# Altium schematic symbol library 原件库.SchLib: 18 symbols
Pins are listed as number, name and electrical type; pins without a type are passive.

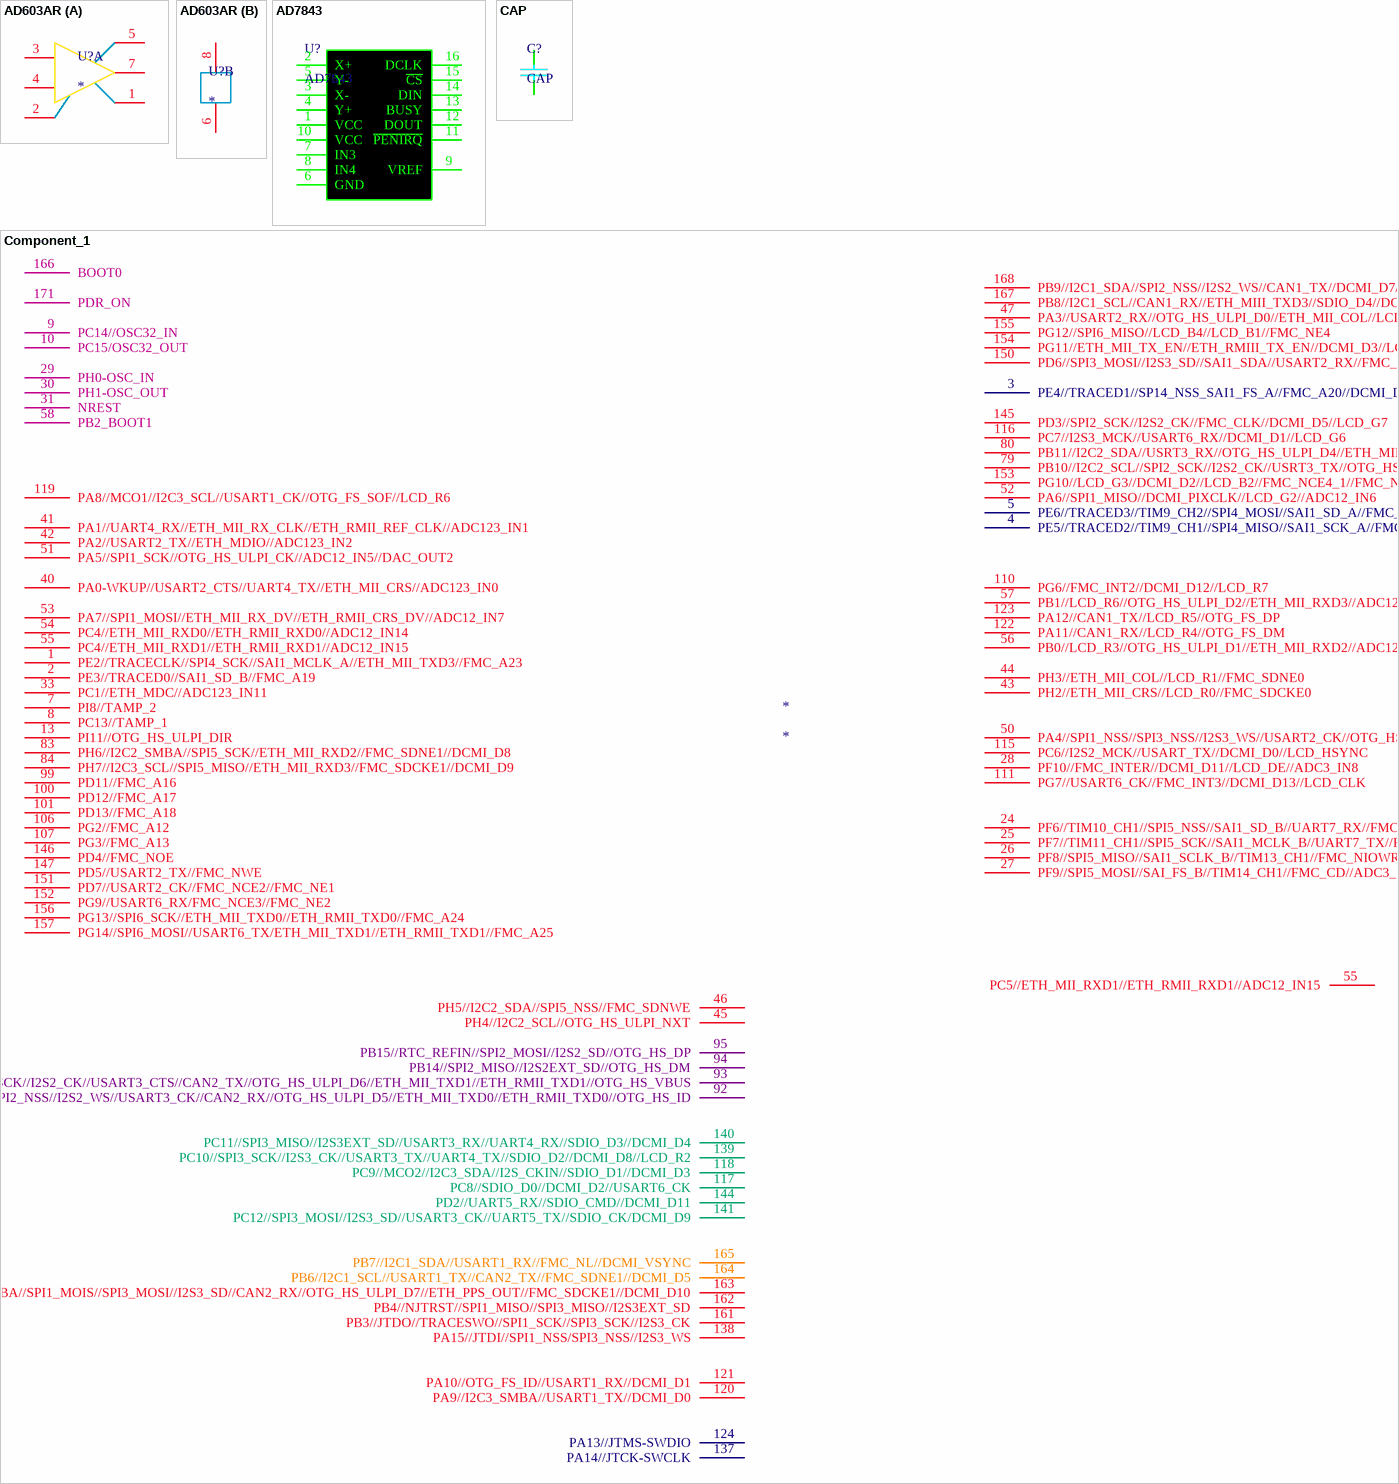
[diagram p0: symbols AD603AR to Component_1]

## AD603AR
designator U?
part A pins: 1, 2  , 3 IN, 4 GND, 5, 7 OUT
part B pins: 6 (power), 8 (power)

## AD7843
designator U?
footprint TSOP65P640X120-16M (TSOP, 16-Leads, Body 5.00x4.40mm, Pitch 0.65mm, IPC Low Density)
pins: 1 VCC, 2 X+, 3 X-, 4 Y+, 5 Y-, 6 GND, 7 IN3, 8 IN4, 9 VREF, 10 VCC, 11 ~{PENIRQ}, 12 DOUT, 13 BUSY, 14 DIN, 15 ~{CS}, 16 DCLK

## CAP
designator C?
footprint 0805C
pins: 1, 2

## Component_1
designator *
pins: 1 PE2//TRACECLK//SPI4_SCK//SAI1_MCLK_A//ETH_MII_TXD3//FMC_A23, 2 PE3//TRACED0//SAI1_SD_B//FMC_A19, 3 PE4//TRACED1//SP14_NSS_SAI1_FS_A//FMC_A20//DCMI_D4//LCD_B0, 4 PE5//TRACED2//TIM9_CH1//SPI4_MISO//SAI1_SCK_A//FMC_A21//DCMI_D6//LCD_G0, 5 PE6//TRACED3//TIM9_CH2//SPI4_MOSI//SAI1_SD_A//FMC_A22//DCMI_D7//LCD_G1, 7 PI8//TAMP_2, 8 PC13//TAMP_1, 9 PC14//OSC32_IN, 10 PC15/OSC32_OUT, 13 PI11//OTG_HS_ULPI_DIR, 24 PF6//TIM10_CH1//SPI5_NSS//SAI1_SD_B//UART7_RX//FMC_NIORD//ADC3_IN4, 25 PF7//TIM11_CH1//SPI5_SCK//SAI1_MCLK_B//UART7_TX//FMC_NREG//ADC3_IN5, 26 PF8//SPI5_MISO//SAI1_SCLK_B//TIM13_CH1//FMC_NIOWR//ADC3_IN6, 27 PF9//SPI5_MOSI//SAI_FS_B//TIM14_CH1//FMC_CD//ADC3_IN7, 28 PF10//FMC_INTER//DCMI_D11//LCD_DE//ADC3_IN8, 29 PH0-OSC_IN, 30 PH1-OSC_OUT, 31 NREST, 33 PC1//ETH_MDC//ADC123_IN11, 40 PA0-WKUP//USART2_CTS//UART4_TX//ETH_MII_CRS//ADC123_IN0, 41 PA1//UART4_RX//ETH_MII_RX_CLK//ETH_RMII_REF_CLK//ADC123_IN1, 42 PA2//USART2_TX//ETH_MDIO//ADC123_IN2, 43 PH2//ETH_MII_CRS//LCD_R0//FMC_SDCKE0, 44 PH3//ETH_MII_COL//LCD_R1//FMC_SDNE0, 45 PH4//I2C2_SCL//OTG_HS_ULPI_NXT, 46 PH5//I2C2_SDA//SPI5_NSS//FMC_SDNWE, 47 PA3//USART2_RX//OTG_HS_ULPI_D0//ETH_MII_COL//LCD_B5//ADC123_IN3, 50 PA4//SPI1_NSS//SPI3_NSS//I2S3_WS//USART2_CK//OTG_HS_SOF//DCMI_HSYNC//LCD_VSYNC//ADC12_IN4//DAC_OUT1, 51 PA5//SPI1_SCK//OTG_HS_ULPI_CK//ADC12_IN5//DAC_OUT2, 52 PA6//SPI1_MISO//DCMI_PIXCLK//LCD_G2//ADC12_IN6, 53 PA7//SPI1_MOSI//ETH_MII_RX_DV//ETH_RMII_CRS_DV//ADC12_IN7, 54 PC4//ETH_MII_RXD0//ETH_RMII_RXD0//ADC12_IN14, 55 PC5//ETH_MII_RXD1//ETH_RMII_RXD1//ADC12_IN15, 55 PC4//ETH_MII_RXD1//ETH_RMII_RXD1//ADC12_IN15, 56 PB0//LCD_R3//OTG_HS_ULPI_D1//ETH_MII_RXD2//ADC12_IN8, 57 PB1//LCD_R6//OTG_HS_ULPI_D2//ETH_MII_RXD3//ADC12_IN9, 58 PB2_BOOT1, 79 PB10//I2C2_SCL//SPI2_SCK//I2S2_CK//USRT3_TX//OTG_HS_ULPI_D3//ETH_MII_RX_ER//LCD_G4, 80 PB11//I2C2_SDA//USRT3_RX//OTG_HS_ULPI_D4//ETH_MII_TX_EN//ETH_RMII_TX_EN//LCD_G5, 83 PH6//I2C2_SMBA//SPI5_SCK//ETH_MII_RXD2//FMC_SDNE1//DCMI_D8, 84 PH7//I2C3_SCL//SPI5_MISO//ETH_MII_RXD3//FMC_SDCKE1//DCMI_D9, 92 PB12//I2C2_SMBA//SPI2_NSS//I2S2_WS//USART3_CK//CAN2_RX//OTG_HS_ULPI_D5//ETH_MII_TXD0//ETH_RMII_TXD0//OTG_HS_ID, 93 PB13//SPI2_SCK//I2S2_CK//USART3_CTS//CAN2_TX//OTG_HS_ULPI_D6//ETH_MII_TXD1//ETH_RMII_TXD1//OTG_HS_VBUS, 94 PB14//SPI2_MISO//I2S2EXT_SD//OTG_HS_DM, 95 PB15//RTC_REFIN//SPI2_MOSI//I2S2_SD//OTG_HS_DP, 99 PD11//FMC_A16, 100 PD12//FMC_A17, 101 PD13//FMC_A18, 106 PG2//FMC_A12, 107 PG3//FMC_A13, 110 PG6//FMC_INT2//DCMI_D12//LCD_R7, 111 PG7//USART6_CK//FMC_INT3//DCMI_D13//LCD_CLK, 115 PC6//I2S2_MCK//USART_TX//DCMI_D0//LCD_HSYNC, 116 PC7//I2S3_MCK//USART6_RX//DCMI_D1//LCD_G6, 117 PC8//SDIO_D0//DCMI_D2//USART6_CK, 118 PC9//MCO2//I2C3_SDA//I2S_CKIN//SDIO_D1//DCMI_D3, 119 PA8//MCO1//I2C3_SCL//USART1_CK//OTG_FS_SOF//LCD_R6, 120 PA9//I2C3_SMBA//USART1_TX//DCMI_D0, 121 PA10//OTG_FS_ID//USART1_RX//DCMI_D1, 122 PA11//CAN1_RX//LCD_R4//OTG_FS_DM, 123 PA12//CAN1_TX//LCD_R5//OTG_FS_DP, 124 PA13//JTMS-SWDIO, 137 PA14//JTCK-SWCLK, 138 PA15//JTDI//SPI1_NSS/SPI3_NSS//I2S3_WS, 139 PC10//SPI3_SCK//I2S3_CK//USART3_TX//UART4_TX//SDIO_D2//DCMI_D8//LCD_R2, 140 PC11//SPI3_MISO//I2S3EXT_SD//USART3_RX//UART4_RX//SDIO_D3//DCMI_D4, 141 PC12//SPI3_MOSI//I2S3_SD//USART3_CK//UART5_TX//SDIO_CK/DCMI_D9, 144 PD2//UART5_RX//SDIO_CMD//DCMI_D11, 145 PD3//SPI2_SCK//I2S2_CK//FMC_CLK//DCMI_D5//LCD_G7, 146 PD4//FMC_NOE, 147 PD5//USART2_TX//FMC_NWE, 150 PD6//SPI3_MOSI//I2S3_SD//SAI1_SDA//USART2_RX//FMC_NWAIT//DCMI_D10//LCD_B2, 151 PD7//USART2_CK//FMC_NCE2//FMC_NE1, 152 PG9//USART6_RX/FMC_NCE3//FMC_NE2, 153 PG10//LCD_G3//DCMI_D2//LCD_B2//FMC_NCE4_1//FMC_NE3, 154 PG11//ETH_MII_TX_EN//ETH_RMIII_TX_EN//DCMI_D3//LCD_B3//FMC_NCE4_2, 155 PG12//SPI6_MISO//LCD_B4//LCD_B1//FMC_NE4, 156 PG13//SPI6_SCK//ETH_MII_TXD0//ETH_RMII_TXD0//FMC_A24, 157 PG14//SPI6_MOSI//USART6_TX/ETH_MII_TXD1//ETH_RMII_TXD1//FMC_A25, 161 PB3//JTDO//TRACESWO//SPI1_SCK//SPI3_SCK//I2S3_CK, 162 PB4//NJTRST//SPI1_MISO//SPI3_MISO//I2S3EXT_SD, 163 PB5//I2C1_SMBA//SPI1_MOIS//SPI3_MOSI//I2S3_SD//CAN2_RX//OTG_HS_ULPI_D7//ETH_PPS_OUT//FMC_SDCKE1//DCMI_D10, 164 PB6//I2C1_SCL//USART1_TX//CAN2_TX//FMC_SDNE1//DCMI_D5, 165 PB7//I2C1_SDA//USART1_RX//FMC_NL//DCMI_VSYNC, 166 BOOT0, 167 PB8//I2C1_SCL//CAN1_RX//ETH_MIII_TXD3//SDIO_D4//DCMI_D6//LCD_B6, 168 PB9//I2C1_SDA//SPI2_NSS//I2S2_WS//CAN1_TX//DCMI_D7//LCD_B7, 171 PDR_ON

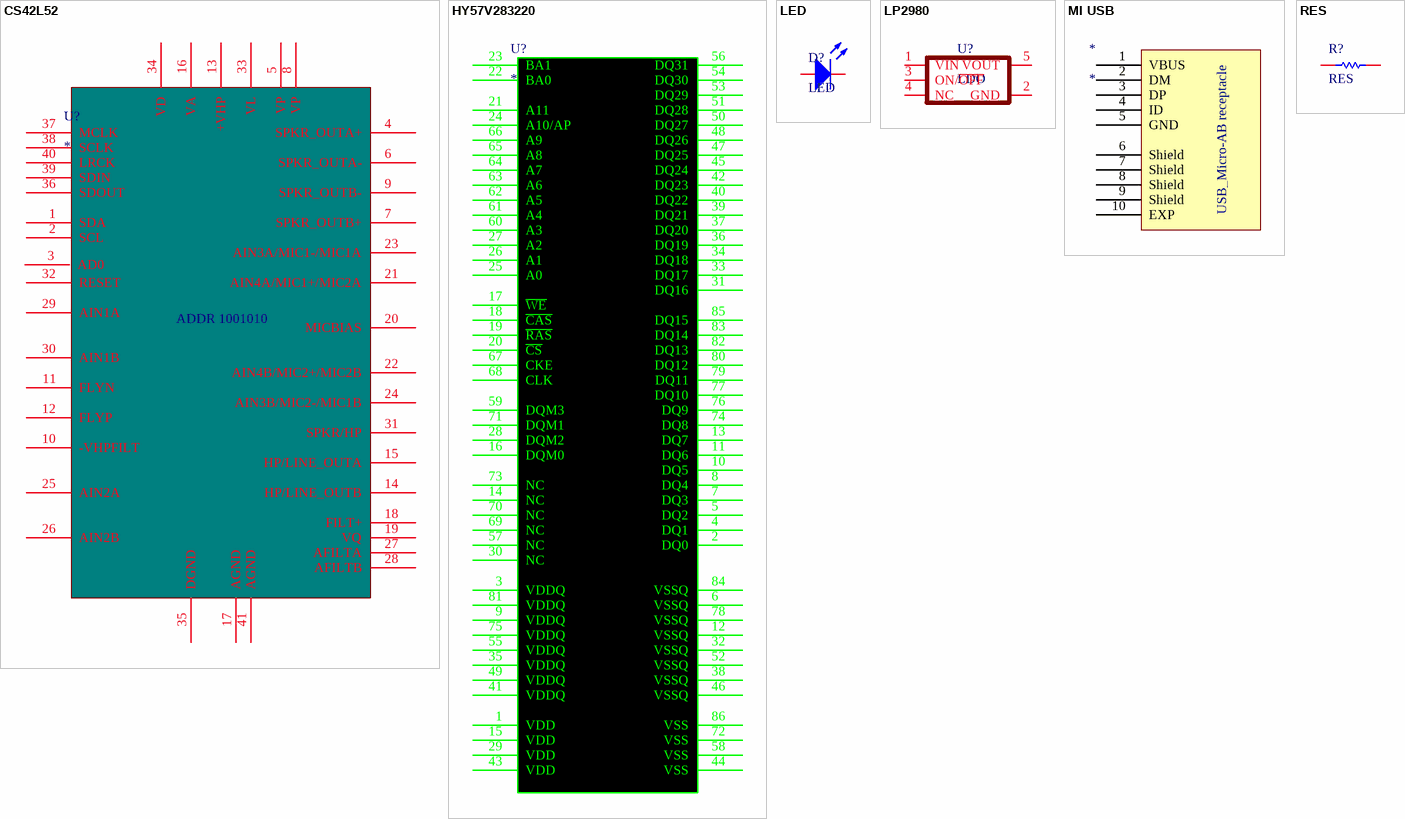
[diagram p1: symbols CS42L52 to RES]

## CS42L52
designator U?
footprint QFN40 (QFN, 40-Leads, Body 6.00x6.00mm, Pitch 0.50mm, Thermal Pad 4.10x4.10mm, IPC Low Density)
pins: 1 SDA, 2 SCL, 3 AD0, 4 SPKR_OUTA+, 5 VP, 6 SPKR_OUTA-, 7 SPKR_OUTB+, 8 VP, 9 SPKR_OUTB-, 10 -VHPFILT, 11 FLYN, 12 FLYP, 13 +VHP, 14 HP/LINE_OUTB, 15 HP/LINE_OUTA, 16 VA, 17 AGND, 18 FILT+, 19 VQ, 20 MICBIAS, 21 AIN4A/MIC1+/MIC2A, 22 AIN4B/MIC2+/MIC2B, 23 AIN3A/MIC1-/MIC1A, 24 AIN3B/MIC2-/MIC1B, 25 AIN2A, 26 AIN2B, 27 AFILTA, 28 AFILTB, 29 AIN1A, 30 AIN1B, 31 SPKR/HP, 32 RESET, 33 VL, 34 VD, 35 DGND, 36 SDOUT, 37 MCLK, 38 SCLK, 39 SDIN, 40 LRCK, 41 AGND
text: ADDR 1001010

## HY57V283220
designator U?
footprint TSOP II
pins: 1 VDD (power), 2 DQ0, 3 VDDQ (power), 4 DQ1, 5 DQ2, 6 VSSQ (power), 7 DQ3, 8 DQ4, 9 VDDQ (power), 10 DQ5, 11 DQ6, 12 VSSQ, 13 DQ7, 14 NC, 15 VDD (power), 16 DQM0, 17 ~{WE}, 18 ~{CAS}, 19 ~{RAS}, 20 ~{CS}, 21 A11, 22 BA0, 23 BA1, 24 A10/AP, 25 A0, 26 A1, 27 A2, 28 DQM2, 29 VDD (power), 30 NC, 31 DQ16, 32 VSSQ, 33 DQ17, 34 DQ18, 35 VDDQ (power), 36 DQ19, 37 DQ20, 38 VSSQ, 39 DQ21, 40 DQ22, 41 VDDQ (power), 42 DQ23, 43 VDD (power), 44 VSS (power), 45 DQ24, 46 VSSQ, 47 DQ25, 48 DQ26, 49 VDDQ (power), 50 DQ27, 51 DQ28, 52 VSSQ, 53 DQ29, 54 DQ30, 55 VDDQ (power), 56 DQ31, 57 NC, 58 VSS (power), 59 DQM3, 60 A3, 61 A4, 62 A5, 63 A6, 64 A7, 65 A8, 66 A9, 67 CKE, 68 CLK, 69 NC, 70 NC, 71 DQM1, 72 VSS (power), 73 NC, 74 DQ8, 75 VDDQ (power), 76 DQ9, 77 DQ10, 78 VSSQ, 79 DQ11, 80 DQ12, 81 VDDQ (power), 82 DQ13, 83 DQ14, 84 VSSQ (power), 85 DQ15, 86 VSS (power)

## LED
designator D?
footprint 1210
pins: 1 A, 2 K

## LP2980
designator U?, comment LDO
footprint SOT23-5 (SOT23, 5-Leads, Body 2.90x2.80mm, Pitch 0.95mm, IPC Low Density)
pins: 1 VIN (power), 2 GND (power), 3 ON/~{OFF}, 4 NC (power), 5 VOUT (power)

## MI USB
designator *
pins: 1 VBUS, 2 DM, 3 DP, 4 ID, 5 GND, 6 Shield, 7 Shield, 8 Shield, 9 Shield, 10 EXP
text: USB_Micro-AB receptacle

## RES
designator R?
footprint 0805R
pins: 1, 2

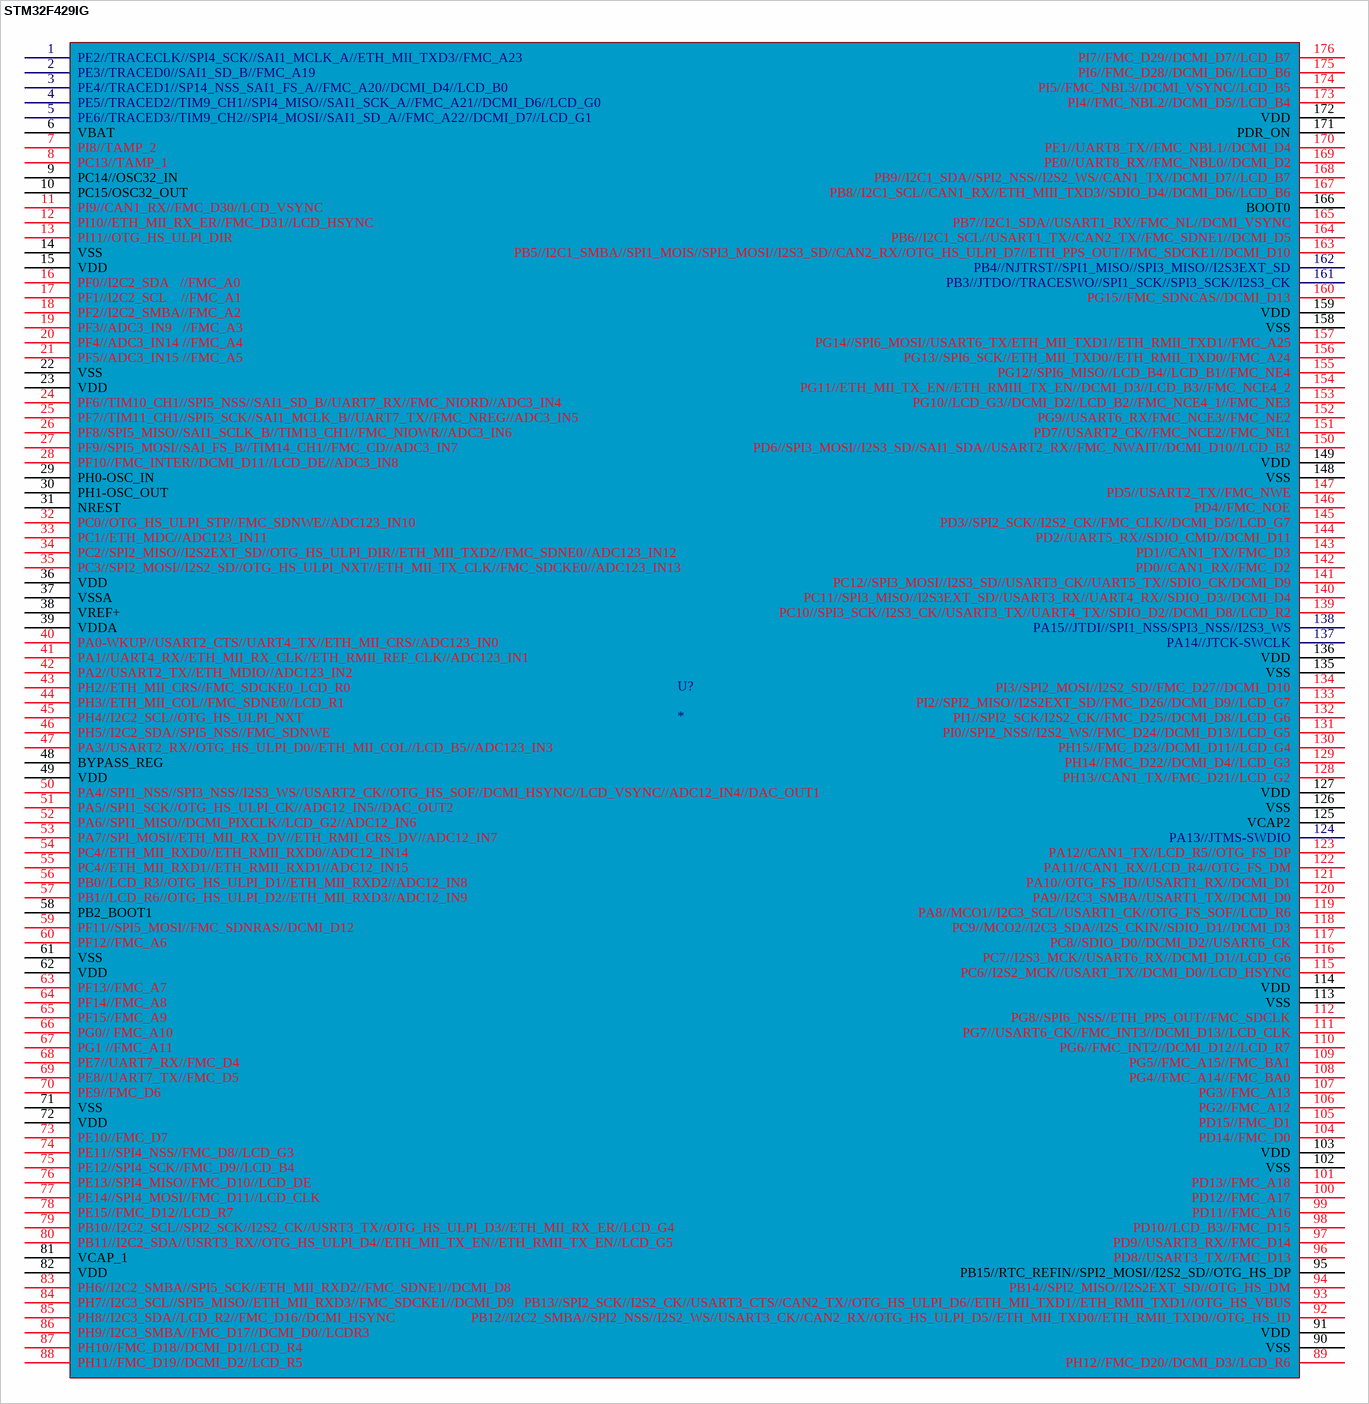
[diagram p2: symbol STM32F429IG]

## STM32F429IG
designator U?
pins: 1 PE2//TRACECLK//SPI4_SCK//SAI1_MCLK_A//ETH_MII_TXD3//FMC_A23, 2 PE3//TRACED0//SAI1_SD_B//FMC_A19, 3 PE4//TRACED1//SP14_NSS_SAI1_FS_A//FMC_A20//DCMI_D4//LCD_B0, 4 PE5//TRACED2//TIM9_CH1//SPI4_MISO//SAI1_SCK_A//FMC_A21//DCMI_D6//LCD_G0, 5 PE6//TRACED3//TIM9_CH2//SPI4_MOSI//SAI1_SD_A//FMC_A22//DCMI_D7//LCD_G1, 6 VBAT, 7 PI8//TAMP_2, 8 PC13//TAMP_1, 9 PC14//OSC32_IN, 10 PC15/OSC32_OUT, 11 PI9//CAN1_RX//FMC_D30//LCD_VSYNC, 12 PI10//ETH_MII_RX_ER//FMC_D31//LCD_HSYNC, 13 PI11//OTG_HS_ULPI_DIR, 14 VSS, 15 VDD, 16 PF0//I2C2_SDA   //FMC_A0, 17 PF1//I2C2_SCL    //FMC_A1, 18 PF2//I2C2_SMBA//FMC_A2, 19 PF3//ADC3_IN9   //FMC_A3, 20 PF4//ADC3_IN14 //FMC_A4, 21 PF5//ADC3_IN15 //FMC_A5, 22 VSS, 23 VDD, 24 PF6//TIM10_CH1//SPI5_NSS//SAI1_SD_B//UART7_RX//FMC_NIORD//ADC3_IN4, 25 PF7//TIM11_CH1//SPI5_SCK//SAI1_MCLK_B//UART7_TX//FMC_NREG//ADC3_IN5, 26 PF8//SPI5_MISO//SAI1_SCLK_B//TIM13_CH1//FMC_NIOWR//ADC3_IN6, 27 PF9//SPI5_MOSI//SAI_FS_B//TIM14_CH1//FMC_CD//ADC3_IN7, 28 PF10//FMC_INTER//DCMI_D11//LCD_DE//ADC3_IN8, 29 PH0-OSC_IN, 30 PH1-OSC_OUT, 31 NREST, 32 PC0//OTG_HS_ULPI_STP//FMC_SDNWE//ADC123_IN10, 33 PC1//ETH_MDC//ADC123_IN11, 34 PC2//SPI2_MISO//I2S2EXT_SD//OTG_HS_ULPI_DIR//ETH_MII_TXD2//FMC_SDNE0//ADC123_IN12, 35 PC3//SPI2_MOSI//I2S2_SD//OTG_HS_ULPI_NXT//ETH_MII_TX_CLK//FMC_SDCKE0//ADC123_IN13, 36 VDD, 37 VSSA, 38 VREF+, 39 VDDA, 40 PA0-WKUP//USART2_CTS//UART4_TX//ETH_MII_CRS//ADC123_IN0, 41 PA1//UART4_RX//ETH_MII_RX_CLK//ETH_RMII_REF_CLK//ADC123_IN1, 42 PA2//USART2_TX//ETH_MDIO//ADC123_IN2, 43 PH2//ETH_MII_CRS//FMC_SDCKE0_LCD_R0, 44 PH3//ETH_MII_COL//FMC_SDNE0//LCD_R1, 45 PH4//I2C2_SCL//OTG_HS_ULPI_NXT, 46 PH5//I2C2_SDA//SPI5_NSS//FMC_SDNWE, 47 PA3//USART2_RX//OTG_HS_ULPI_D0//ETH_MII_COL//LCD_B5//ADC123_IN3, 48 BYPASS_REG, 49 VDD, 50 PA4//SPI1_NSS//SPI3_NSS//I2S3_WS//USART2_CK//OTG_HS_SOF//DCMI_HSYNC//LCD_VSYNC//ADC12_IN4//DAC_OUT1, 51 PA5//SPI1_SCK//OTG_HS_ULPI_CK//ADC12_IN5//DAC_OUT2, 52 PA6//SPI1_MISO//DCMI_PIXCLK//LCD_G2//ADC12_IN6, 53 PA7//SPI_MOSI//ETH_MII_RX_DV//ETH_RMII_CRS_DV//ADC12_IN7, 54 PC4//ETH_MII_RXD0//ETH_RMII_RXD0//ADC12_IN14, 55 PC4//ETH_MII_RXD1//ETH_RMII_RXD1//ADC12_IN15, 56 PB0//LCD_R3//OTG_HS_ULPI_D1//ETH_MII_RXD2//ADC12_IN8, 57 PB1//LCD_R6//OTG_HS_ULPI_D2//ETH_MII_RXD3//ADC12_IN9, 58 PB2_BOOT1, 59 PF11//SPI5_MOSI//FMC_SDNRAS//DCMI_D12, 60 PF12//FMC_A6, 61 VSS, 62 VDD, 63 PF13//FMC_A7, 64 PF14//FMC_A8, 65 PF15//FMC_A9, 66 PG0// FMC_A10, 67 PG1 //FMC_A11, 68 PE7//UART7_RX//FMC_D4, 69 PE8//UART7_TX//FMC_D5, 70 PE9//FMC_D6, 71 VSS, 72 VDD, 73 PE10//FMC_D7, 74 PE11//SPI4_NSS//FMC_D8//LCD_G3, 75 PE12//SPI4_SCK//FMC_D9//LCD_B4, 76 PE13//SPI4_MISO//FMC_D10//LCD_DE, 77 PE14//SPI4_MOSI//FMC_D11//LCD_CLK, 78 PE15//FMC_D12//LCD_R7, 79 PB10//I2C2_SCL//SPI2_SCK//I2S2_CK//USRT3_TX//OTG_HS_ULPI_D3//ETH_MII_RX_ER//LCD_G4, 80 PB11//I2C2_SDA//USRT3_RX//OTG_HS_ULPI_D4//ETH_MII_TX_EN//ETH_RMII_TX_EN//LCD_G5, 81 VCAP_1, 82 VDD, 83 PH6//I2C2_SMBA//SPI5_SCK//ETH_MII_RXD2//FMC_SDNE1//DCMI_D8, 84 PH7//I2C3_SCL//SPI5_MISO//ETH_MII_RXD3//FMC_SDCKE1//DCMI_D9, 85 PH8//I2C3_SDA//LCD_R2//FMC_D16//DCMI_HSYNC, 86 PH9//I2C3_SMBA//FMC_D17//DCMI_D0//LCDR3, 87 PH10//FMC_D18//DCMI_D1//LCD_R4, 88 PH11//FMC_D19//DCMI_D2//LCD_R5, 89 PH12//FMC_D20//DCMI_D3//LCD_R6, 90 VSS, 91 VDD, 92 PB12//I2C2_SMBA//SPI2_NSS//I2S2_WS//USART3_CK//CAN2_RX//OTG_HS_ULPI_D5//ETH_MII_TXD0//ETH_RMII_TXD0//OTG_HS_ID, 93 PB13//SPI2_SCK//I2S2_CK//USART3_CTS//CAN2_TX//OTG_HS_ULPI_D6//ETH_MII_TXD1//ETH_RMII_TXD1//OTG_HS_VBUS, 94 PB14//SPI2_MISO//I2S2EXT_SD//OTG_HS_DM, 95 PB15//RTC_REFIN//SPI2_MOSI//I2S2_SD//OTG_HS_DP, 96 PD8//USART3_TX//FMC_D13, 97 PD9//USART3_RX//FMC_D14, 98 PD10//LCD_B3//FMC_D15, 99 PD11//FMC_A16, 100 PD12//FMC_A17, 101 PD13//FMC_A18, 102 VSS, 103 VDD, 104 PD14//FMC_D0, 105 PD15//FMC_D1, 106 PG2//FMC_A12, 107 PG3//FMC_A13, 108 PG4//FMC_A14//FMC_BA0, 109 PG5//FMC_A15//FMC_BA1, 110 PG6//FMC_INT2//DCMI_D12//LCD_R7, 111 PG7//USART6_CK//FMC_INT3//DCMI_D13//LCD_CLK, 112 PG8//SPI6_NSS//ETH_PPS_OUT//FMC_SDCLK, 113 VSS, 114 VDD, 115 PC6//I2S2_MCK//USART_TX//DCMI_D0//LCD_HSYNC, 116 PC7//I2S3_MCK//USART6_RX//DCMI_D1//LCD_G6, 117 PC8//SDIO_D0//DCMI_D2//USART6_CK, 118 PC9//MCO2//I2C3_SDA//I2S_CKIN//SDIO_D1//DCMI_D3, 119 PA8//MCO1//I2C3_SCL//USART1_CK//OTG_FS_SOF//LCD_R6, 120 PA9//I2C3_SMBA//USART1_TX//DCMI_D0, 121 PA10//OTG_FS_ID//USART1_RX//DCMI_D1, 122 PA11//CAN1_RX//LCD_R4//OTG_FS_DM, 123 PA12//CAN1_TX//LCD_R5//OTG_FS_DP, 124 PA13//JTMS-SWDIO, 125 VCAP2, 126 VSS, 127 VDD, 128 PH13//CAN1_TX//FMC_D21//LCD_G2, 129 PH14//FMC_D22//DCMI_D4//LCD_G3, 130 PH15//FMC_D23//DCMI_D11//LCD_G4, 131 PI0//SPI2_NSS//I2S2_WS//FMC_D24//DCMI_D13//LCD_G5, 132 PI1//SPI2_SCK/I2S2_CK//FMC_D25//DCMI_D8//LCD_G6, 133 PI2//SPI2_MISO//I2S2EXT_SD//FMC_D26//DCMI_D9//LCD_G7, 134 PI3//SPI2_MOSI//I2S2_SD//FMC_D27//DCMI_D10, 135 VSS, 136 VDD, 137 PA14//JTCK-SWCLK, 138 PA15//JTDI//SPI1_NSS/SPI3_NSS//I2S3_WS, 139 PC10//SPI3_SCK//I2S3_CK//USART3_TX//UART4_TX//SDIO_D2//DCMI_D8//LCD_R2, 140 PC11//SPI3_MISO//I2S3EXT_SD//USART3_RX//UART4_RX//SDIO_D3//DCMI_D4, 141 PC12//SPI3_MOSI//I2S3_SD//USART3_CK//UART5_TX//SDIO_CK/DCMI_D9, 142 PD0//CAN1_RX//FMC_D2, 143 PD1//CAN1_TX//FMC_D3, 144 PD2//UART5_RX//SDIO_CMD//DCMI_D11, 145 PD3//SPI2_SCK//I2S2_CK//FMC_CLK//DCMI_D5//LCD_G7, 146 PD4//FMC_NOE, 147 PD5//USART2_TX//FMC_NWE, 148 VSS, 149 VDD, 150 PD6//SPI3_MOSI//I2S3_SD//SAI1_SDA//USART2_RX//FMC_NWAIT//DCMI_D10//LCD_B2, 151 PD7//USART2_CK//FMC_NCE2//FMC_NE1, 152 PG9//USART6_RX/FMC_NCE3//FMC_NE2, 153 PG10//LCD_G3//DCMI_D2//LCD_B2//FMC_NCE4_1//FMC_NE3, 154 PG11//ETH_MII_TX_EN//ETH_RMIII_TX_EN//DCMI_D3//LCD_B3//FMC_NCE4_2, 155 PG12//SPI6_MISO//LCD_B4//LCD_B1//FMC_NE4, 156 PG13//SPI6_SCK//ETH_MII_TXD0//ETH_RMII_TXD0//FMC_A24, 157 PG14//SPI6_MOSI//USART6_TX/ETH_MII_TXD1//ETH_RMII_TXD1//FMC_A25, 158 VSS, 159 VDD, 160 PG15//FMC_SDNCAS//DCMI_D13, 161 PB3//JTDO//TRACESWO//SPI1_SCK//SPI3_SCK//I2S3_CK, 162 PB4//NJTRST//SPI1_MISO//SPI3_MISO//I2S3EXT_SD, 163 PB5//I2C1_SMBA//SPI1_MOIS//SPI3_MOSI//I2S3_SD//CAN2_RX//OTG_HS_ULPI_D7//ETH_PPS_OUT//FMC_SDCKE1//DCMI_D10, 164 PB6//I2C1_SCL//USART1_TX//CAN2_TX//FMC_SDNE1//DCMI_D5, 165 PB7//I2C1_SDA//USART1_RX//FMC_NL//DCMI_VSYNC, 166 BOOT0, 167 PB8//I2C1_SCL//CAN1_RX//ETH_MIII_TXD3//SDIO_D4//DCMI_D6//LCD_B6, 168 PB9//I2C1_SDA//SPI2_NSS//I2S2_WS//CAN1_TX//DCMI_D7//LCD_B7, 169 PE0//UART8_RX//FMC_NBL0//DCMI_D2, 170 PE1//UART8_TX//FMC_NBL1//DCMI_D4, 171 PDR_ON, 172 VDD, 173 PI4//FMC_NBL2//DCMI_D5//LCD_B4, 174 PI5//FMC_NBL3//DCMI_VSYNC//LCD_B5, 175 PI6//FMC_D28//DCMI_D6//LCD_B6, 176 PI7//FMC_D29//DCMI_D7//LCD_B7

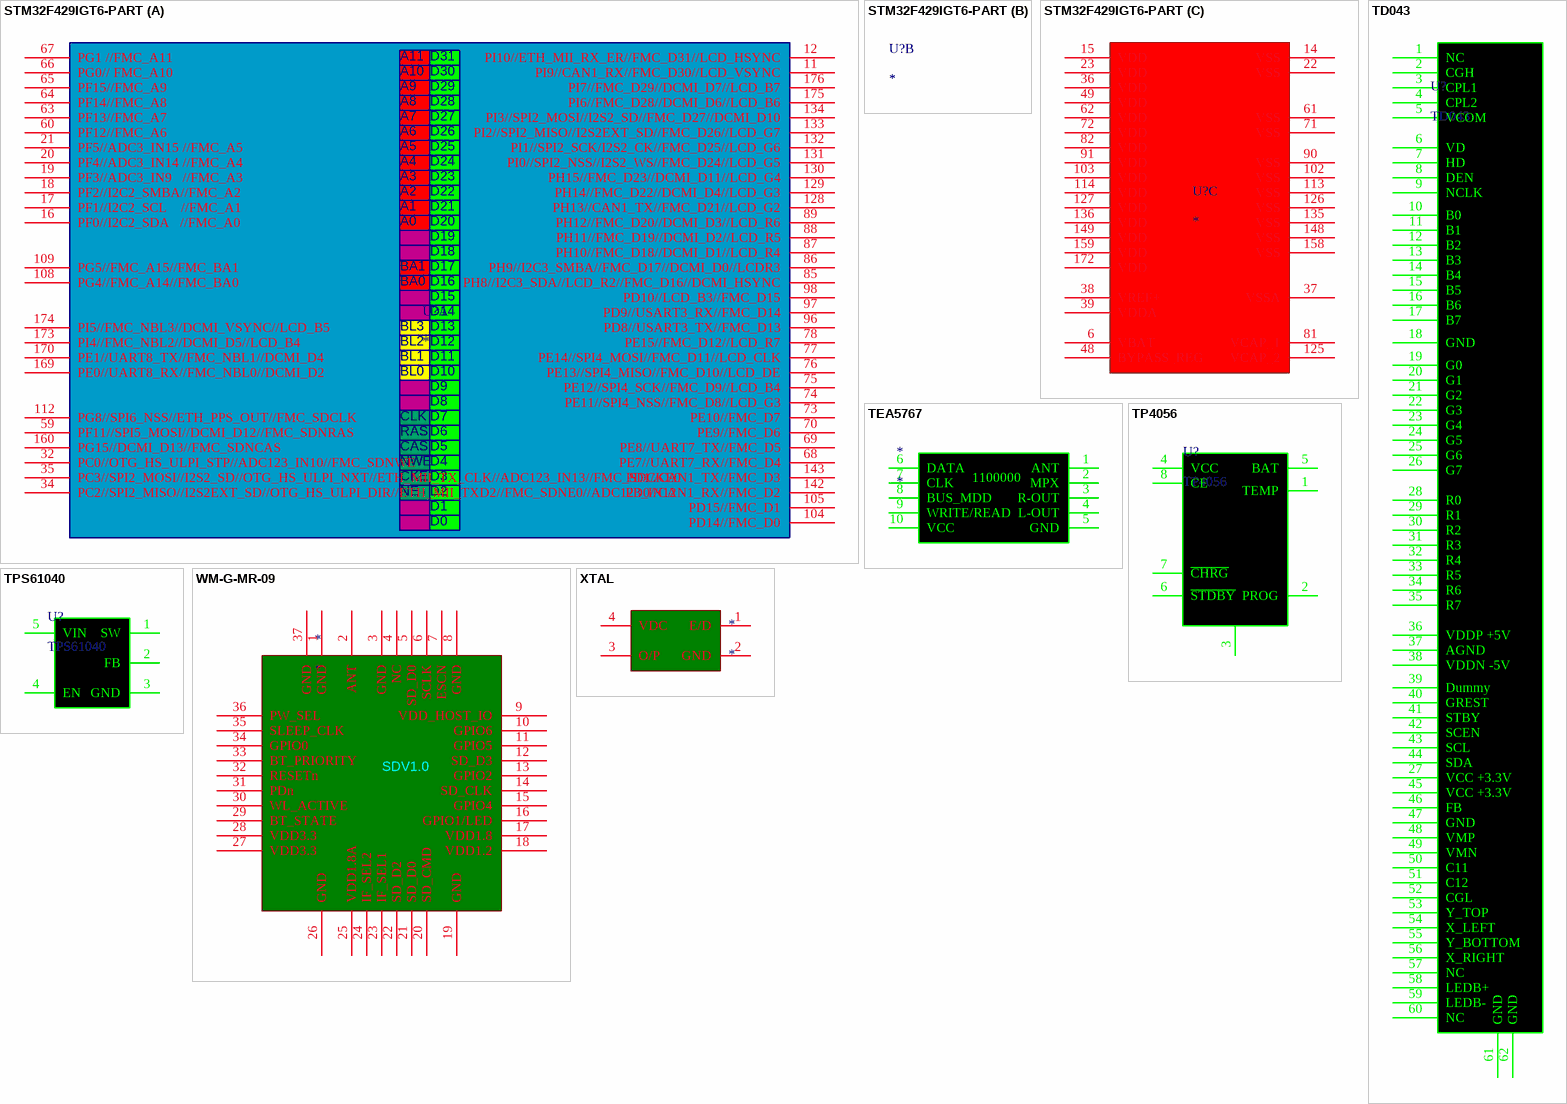
[diagram p3: symbols STM32F429IGT6-PART to XTAL]

## STM32F429IGT6-PART
designator U?
part A pins: 11 PI9//CAN1_RX//FMC_D30//LCD_VSYNC, 12 PI10//ETH_MII_RX_ER//FMC_D31//LCD_HSYNC, 16 PF0//I2C2_SDA   //FMC_A0, 17 PF1//I2C2_SCL    //FMC_A1, 18 PF2//I2C2_SMBA//FMC_A2, 19 PF3//ADC3_IN9   //FMC_A3, 20 PF4//ADC3_IN14 //FMC_A4, 21 PF5//ADC3_IN15 //FMC_A5, 32 PC0//OTG_HS_ULPI_STP//ADC123_IN10//FMC_SDNWE, 34 PC2//SPI2_MISO//I2S2EXT_SD//OTG_HS_ULPI_DIR//ETH_MII_TXD2//FMC_SDNE0//ADC123_IN12, 35 PC3//SPI2_MOSI//I2S2_SD//OTG_HS_ULPI_NXT//ETH_MII_TX_CLK//ADC123_IN13//FMC_SDCKE0, 59 PF11//SPI5_MOSI//DCMI_D12//FMC_SDNRAS, 60 PF12//FMC_A6, 63 PF13//FMC_A7, 64 PF14//FMC_A8, 65 PF15//FMC_A9, 66 PG0// FMC_A10, 67 PG1 //FMC_A11, 68 PE7//UART7_RX//FMC_D4, 69 PE8//UART7_TX//FMC_D5, 70 PE9//FMC_D6, 73 PE10//FMC_D7, 74 PE11//SPI4_NSS//FMC_D8//LCD_G3, 75 PE12//SPI4_SCK//FMC_D9//LCD_B4, 76 PE13//SPI4_MISO//FMC_D10//LCD_DE, 77 PE14//SPI4_MOSI//FMC_D11//LCD_CLK, 78 PE15//FMC_D12//LCD_R7, 85 PH8//I2C3_SDA//LCD_R2//FMC_D16//DCMI_HSYNC, 86 PH9//I2C3_SMBA//FMC_D17//DCMI_D0//LCDR3, 87 PH10//FMC_D18//DCMI_D1//LCD_R4, 88 PH11//FMC_D19//DCMI_D2//LCD_R5, 89 PH12//FMC_D20//DCMI_D3//LCD_R6, 96 PD8//USART3_TX//FMC_D13, 97 PD9//USART3_RX//FMC_D14, 98 PD10//LCD_B3//FMC_D15, 104 PD14//FMC_D0, 105 PD15//FMC_D1, 108 PG4//FMC_A14//FMC_BA0, 109 PG5//FMC_A15//FMC_BA1, 112 PG8//SPI6_NSS//ETH_PPS_OUT//FMC_SDCLK, 128 PH13//CAN1_TX//FMC_D21//LCD_G2, 129 PH14//FMC_D22//DCMI_D4//LCD_G3, 130 PH15//FMC_D23//DCMI_D11//LCD_G4, 131 PI0//SPI2_NSS//I2S2_WS//FMC_D24//LCD_G5, 132 PI1//SPI2_SCK/I2S2_CK//FMC_D25//LCD_G6, 133 PI2//SPI2_MISO//I2S2EXT_SD//FMC_D26//LCD_G7, 134 PI3//SPI2_MOSI//I2S2_SD//FMC_D27//DCMI_D10, 142 PD0//CAN1_RX//FMC_D2, 143 PD1//CAN1_TX//FMC_D3, 160 PG15//DCMI_D13//FMC_SDNCAS, 169 PE0//UART8_RX//FMC_NBL0//DCMI_D2, 170 PE1//UART8_TX//FMC_NBL1//DCMI_D4, 173 PI4//FMC_NBL2//DCMI_D5//LCD_B4, 174 PI5//FMC_NBL3//DCMI_VSYNC//LCD_B5, 175 PI6//FMC_D28//DCMI_D6//LCD_B6, 176 PI7//FMC_D29//DCMI_D7//LCD_B7
part C pins: 6 VBAT, 14 VSS, 15 VDD, 22 VSS, 23 VDD, 36 VDD, 37 VSSA, 38 VREF+, 39 VDDA, 48 BYPASS_REG, 49 VDD, 61 VSS, 62 VDD, 71 VSS, 72 VDD, 81 VCAP_1, 82 VDD, 90 VSS, 91 VDD, 102 VSS, 103 VDD, 113 VSS, 114 VDD, 125 VCAP_2, 126 VSS, 127 VDD, 135 VSS, 136 VDD, 148 VSS, 149 VDD, 158 VSS, 159 VDD, 172 VDD
part A text: A11; D31; A10; D30; A9; D29; A8; D28; A7; D27; A6; D26; A5; D25; A4; D24; A3; D23; A2; D22; A1; D21; A0; D20; D19; D18; BA1; D17; BA0; D16; D15; D14; BL3; D13; BL2; D12; BL1; D11; BL0; D10; D9; D8; CLK; D7; RAS; D6; CAS; D5; NWE; D4; CKE; D3; NE; D2; D1; D0

## TD043
designator U?
footprint FPC-0.5-60-H
pins: 1 NC, 2 CGH, 3 CPL1, 4 CPL2, 5 VCOM, 6 VD, 7 HD, 8 DEN, 9 NCLK, 10 B0, 11 B1, 12 B2, 13 B3, 14 B4, 15 B5, 16 B6, 17 B7, 18 GND, 19 G0, 20 G1, 21 G2, 22 G3, 23 G4, 24 G5, 25 G6, 26 G7, 27 VCC +3.3V, 28 R0, 29 R1, 30 R2, 31 R3, 32 R4, 33 R5, 34 R6, 35 R7, 36 VDDP +5V, 37 AGND, 38 VDDN -5V, 39 Dummy, 40 GREST, 41 STBY, 42 SCEN, 43 SCL, 44 SDA, 45 VCC +3.3V, 46 FB, 47 GND, 48 VMP, 49 VMN, 50 C11, 51 C12, 52 CGL, 53 Y_TOP, 54 X_LEFT, 55 Y_BOTTOM, 56 X_RIGHT, 57 NC, 58 LEDB+, 59 LEDB-, 60 NC, 61 GND, 62 GND

## TEA5767
designator *
pins: 1 ANT, 2 MPX, 3 R-OUT, 4 L-OUT, 5 GND, 6 DATA, 7 CLK, 8 BUS_MDD, 9 WRITE/READ, 10 VCC
text: 1100000 /

## TP4056
designator U?
footprint SOP8
pins: 1 TEMP, 2 PROG, 3 GND (power), 4 VCC (power), 5 BAT (power), 6 ~{STDBY}, 7 ~{CHRG}, 8 CE

## TPS61040
designator U?
footprint SOT23-5 (SOT23, 5-Leads, Body 2.90x2.80mm, Pitch 0.95mm, IPC Low Density)
pins: 1 SW, 2 FB, 3 GND, 4 EN, 5 VIN

## WM-G-MR-09
designator *
footprint WM-G-MR-09
pins: 1 GND, 2 ANT, 3 GND, 4 NC, 5 SD_D0, 6 SCLK, 7 ESCN, 8 GND, 9 VDD_HOST_IO, 10 GPIO6, 11 GPIO5, 12 SD_D3, 13 GPIO2, 14 SD_CLK, 15 GPIO4, 16 GPIO1/LED, 17 VDD1.8, 18 VDD1.2, 19 GND, 20 SD_CMD, 21 SD_D0, 22 SD_D2, 23 IF_SEL1, 24 IF_SEL2, 25 VDD1.8A, 26 GND, 27 VDD3.3, 28 VDD3.3, 29 BT_STATE, 30 WL_ACTIVE, 31 PDn, 32 RESETn, 33 BT_PRIORITY, 34 GPIO0, 35 SLEEP_CLK, 36 PW_SEL, 37 GND
text: SDV1.0

## XTAL
designator *
pins: 1 E/D, 2 GND, 3 O/P, 4 VDC